# Altium footprint library 磁珠.PcbLib: 5 footprints
Each footprint in its own frame and in the unit in brackets; x right, y up, seen from the top. Pads: shape width x height; smd on the part's side, far side on the other; paste and mask are expansions set on the pad; w line width, h text height; cw(c..) or ccw(c..) is an arc to the next point about the centre after c.
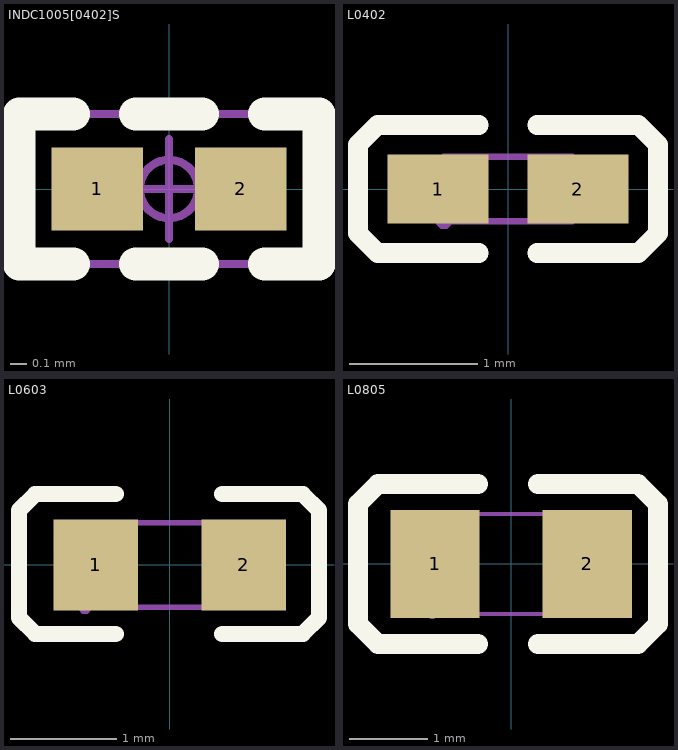
[diagram p0: the footprints below, top view; thin cyan lines are the x and y axes]

## INDC1005[0402]S [mm] "Chip Inductor, 2-Leads, Body 1.00x0.50mm, IPC Medium Density"
height 0.6
pads (2):
  rect 0.55x0.5 smd: 1(-0.43,0) 2(0.43,0)
Top Overlay:
  lines w0.2: -0.575,-0.45 -0.9,-0.45 -0.9,0.45 -0.575,0.45 ; -0.2,-0.45 0.2,-0.45 ; -0.2,0.45 0.2,0.45 ; 0.575,-0.45 0.9,-0.45 0.9,0.45 0.575,0.45
Top Designator:
  text ".Designator" at -2.252,-0.226 h1
Top Component Outline:
  lines w0.05: -0.9,-0.45 0.9,-0.45 0.9,0.45 -0.9,0.45 -0.9,-0.45
Top Component Center:
  circle w0.05: c0,0 r0.175
  lines w0.05: -0.3,0 0.3,0 ; 0,-0.3 0,0.3
3D body: height 0.5, standoff 0, extent -0.5,-0.25 -0.231,0.25
3D body: height 0.5, standoff 0, extent 0.231,-0.25 0.5,0.25
3D body: height 0.49, standoff 0, extent -0.3,-0.25 0.3,0.25

## L0402 [mm]
pads (2):
  rect 0.79x0.54 smd paste-100 mask+0.051: 1(-0.545,0) 2(0.545,0)
Top Overlay:
  lines w0.152: -0.226,-0.499 -1.016,-0.499 -1.169,-0.346 -1.169,0.346 -1.016,0.499 -0.226,0.499 ; 0.226,-0.499 1.016,-0.499 1.169,-0.346 1.169,0.346 1.016,0.499 0.226,0.499
Top Paste:
  region: 0.135,-0.086 0.135,0.086 0.404,0.27 0.9,0.27 0.94,0.23 0.94,-0.23 0.9,-0.27 0.404,-0.27
  region: -0.135,-0.086 -0.135,0.086 -0.404,0.27 -0.9,0.27 -0.94,0.23 -0.94,-0.23 -0.9,-0.27 -0.404,-0.27
Mechanical 15:
  region: -0.5,-0.25 -0.5,0.25 -0.25,0.25 -0.25,-0.25
  region: 0.5,-0.25 0.5,0.25 0.25,0.25 0.25,-0.25
  region: -0.44,-0.25 -0.44,-0.225 -0.475,-0.19 -0.525,-0.19 -0.56,-0.225 -0.56,-0.25 -0.56,-0.275 -0.525,-0.31 -0.475,-0.31 -0.44,-0.275 -0.44,-0.25
  lines w0.051: -0.5,-0.25 -0.5,0.25 0.5,0.25 0.5,-0.25 -0.5,-0.25

## L0603 [mm]
pads (2):
  rect 0.8x0.864 smd paste-100 mask+0.051: 1(-0.7,0) 2(0.7,0)
Top Overlay:
  lines w0.152: -0.51,-0.651 -1.272,-0.651 -1.424,-0.499 -1.424,0.517 -1.272,0.67 -0.51,0.67 ; 0.496,-0.651 1.258,-0.651 1.411,-0.499 1.411,0.517 1.258,0.67 0.496,0.67
Top Paste:
  region: -0.252,0.143 -0.252,-0.134 -0.526,-0.427 -1.029,-0.427 -1.093,-0.363 -1.093,0.373 -1.029,0.437 -0.526,0.437
  region: 0.264,0.154 0.264,-0.122 0.538,-0.416 1.042,-0.416 1.106,-0.352 1.106,0.384 1.042,0.448 0.538,0.448
Mechanical 15:
  region: 0.8,-0.4 0.5,-0.4 0.5,0.4 0.8,0.4
  region: -0.5,-0.4 -0.8,-0.4 -0.8,0.4 -0.5,0.4
  region: -0.74,-0.4 -0.74,-0.375 -0.775,-0.34 -0.825,-0.34 -0.86,-0.375 -0.86,-0.4 -0.86,-0.425 -0.825,-0.46 -0.775,-0.46 -0.74,-0.425 -0.74,-0.4
  lines w0.051: -0.8,-0.4 0.8,-0.4 0.8,0.4 -0.8,0.4 -0.8,-0.4

## L0805 [mm]
pads (2):
  rect 1.133x1.377 smd paste-100 mask+0.051: 1(-0.966,0) 2(0.966,0)
Top Overlay:
  lines w0.254: -0.421,-1.016 -1.691,-1.016 -1.945,-0.762 -1.945,-0.635 -1.945,0.762 -1.691,1.016 -1.564,1.016 -0.421,1.016 ; 0.341,-1.016 1.484,-1.016 1.611,-1.016 1.865,-0.762 1.865,0.635 1.865,0.762 1.611,1.016 0.341,1.016
Top Paste:
  region: -0.36,-0.22 -0.36,0.22 -0.745,0.689 -1.433,0.689 -1.533,0.589 -1.533,-0.588 -1.433,-0.688 -0.745,-0.688
  region: 0.36,-0.22 0.36,0.22 0.745,0.689 1.433,0.689 1.533,0.589 1.533,-0.588 1.433,-0.688 0.745,-0.688
Mechanical 15:
  region: 1,-0.637 1,0.638 0.6,0.638 0.6,-0.637
  region: -1,-0.637 -1,0.638 -0.6,0.638 -0.6,-0.637
  region: -0.94,-0.637 -0.94,-0.613 -0.975,-0.577 -1.025,-0.577 -1.06,-0.613 -1.06,-0.637 -1.06,-0.662 -1.025,-0.697 -0.975,-0.697 -0.94,-0.662 -0.94,-0.637
  lines w0.051: -1,-0.637 -1,0.638 1,0.638 1,-0.637 -1,-0.637

## PCBComponent_1 [mm]